# EAGLE library part BREADBOARD_POWER (library Breadboard_power)
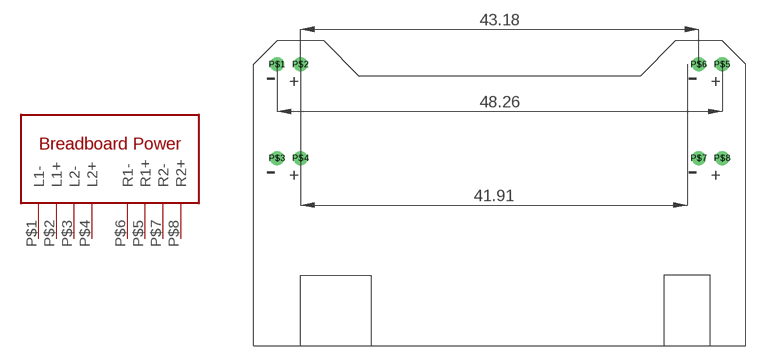
[diagram p0: symbol with the pads of BREADBOARD_POWER; footprint BREADBOARD_POWER]

Designator prefix -

## BREADBOARD_POWER  [BREADBOARD_POWER]
P$1  L1-
P$2  L1+
P$3  L2-
P$4  L2+
P$5  R1+
P$6  R1-
P$7  R2-
P$8  R2+

## Footprint BREADBOARD_POWER (pad centres in mm)
drill 1.016: P$1 2.54,30.48; P$2 5.08,30.48; P$3 2.54,20.32; P$4 5.08,20.32; P$5 50.8,30.48; P$6 48.26,30.48; P$7 48.26,20.32; P$8 50.8,20.32